# EAGLE library part PESD1LVDS (library nxp_60)
ESD protection for in-vehicle ultra high-speed interfaces The device is designed to protect in-vehicle ultra high-speed interfaces in automotive applications, such as Low-Voltage Differential Signaling (LVDS), High-Definition Multimedia Interface (HDMI) and DisplayPort interfaces against ElectroStatic Discharge (ESD). AAL Eindhoven MK
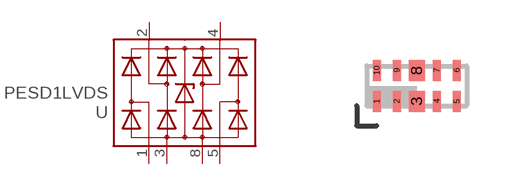
[diagram p52: symbol with the pads of SOT1165-1; footprint SOT1165-1]

Designator prefix -

## PESD1LVDS  [SOT1165-1]
1  CH1-  pas
2  CH1+  pas
3  GND  pwr
4  CH2-  pas
5  CH2+  pas
8  GND  pwr

## Footprint SOT1165-1 (pad centres in mm)
SOT1165-1 XSON10: plastic, extremely thin small outline package; no leads; 10 terminals; body 1 x 2.5 x 0.5 mm JEDEC: -- IEC: --
smd 0.2 x 0.525: 1 -1,-0.388; 2 -0.5,-0.388; 4 0.5,-0.388; 5 1,-0.388; 6 1,0.388; 7 0.5,0.388; 9 -0.5,0.388; 10 -1,0.388
smd 0.4 x 0.525: 3 0,-0.388; 8 0,0.388